# Altium footprint library opa167.PcbLib: 4 footprints
Each footprint in its own frame and in the unit in brackets; x right, y up, seen from the top. Pads: shape width x height; smd on the part's side, far side on the other; paste and mask are expansions set on the pad; w line width, h text height; cw(c..) or ccw(c..) is an arc to the next point about the centre after c.
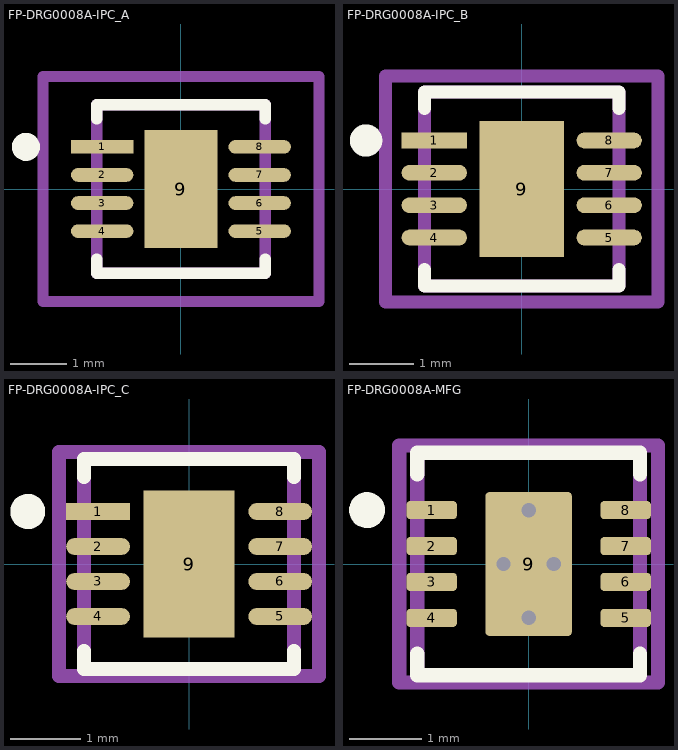
[diagram p0: the footprints below, top view; thin cyan lines are the x and y axes]

## FP-DRG0008A-IPC_A [mm]
pads (9):
  rect 1.11x0.242 smd paste+0 mask+0: 1(-1.401,0.75)
  rrect100% 1.11x0.242 smd paste+0 mask+0: 2(-1.401,0.25) 3(-1.401,-0.25) 4(-1.401,-0.75) 5(1.401,-0.75) 6(1.401,-0.25) 7(1.401,0.25) 8(1.401,0.75)
  rect 1.3x2.1 smd paste-1000 mask+0: 9(0,0)
Top Overlay:
  circle w0.25: c-2.756,0.75 r0.125
  lines w0.2: -1.5,-1.246 -1.5,-1.5 1.5,-1.5 1.5,-1.246 ; -1.5,1.246 -1.5,1.5 1.5,1.5 1.5,1.246
Top Paste:
  rectangle: -0.359,-0.759 0.359,0.759
Top Assembly:
  lines w0.2: -2.456,-2 2.456,-2 2.456,2 -2.456,2 -2.456,-2
  text ".Designator" at 0,-0.001 h1
Top 3D Body:
  lines w0.2: -1.5,-1.5 1.5,-1.5 1.5,1.5 -1.5,1.5 -1.5,-1.5
Top Courtyard:
  lines w0.2: -2.456,-2 2.456,-2 2.456,2 -2.456,2 -2.456,-2
Top Component Center:
  lines w0.1: -0.5,0 0.5,0 ; 0,-0.5 0,0.5
3D body "IC_TEXAS_INSTRUMENTS_LP2951-33DRGR_eec.STEP": height 0.25, standoff 0, extent -2.456,-2 2.456,2

## FP-DRG0008A-IPC_B [mm]
pads (9):
  rect 1.01x0.242 smd paste+0 mask+0: 1(-1.351,0.75)
  rrect100% 1.01x0.242 smd paste+0 mask+0: 2(-1.351,0.25) 3(-1.351,-0.25) 4(-1.351,-0.75) 5(1.351,-0.75) 6(1.351,-0.25) 7(1.351,0.25) 8(1.351,0.75)
  rect 1.3x2.1 smd paste-1000 mask+0: 9(0,0)
Top Overlay:
  circle w0.25: c-2.406,0.75 r0.125
  lines w0.2: -1.5,-1.246 -1.5,-1.5 1.5,-1.5 1.5,-1.246 ; -1.5,1.246 -1.5,1.5 1.5,1.5 1.5,1.246
Top Paste:
  rectangle: -0.359,-0.759 0.359,0.759
Top Assembly:
  lines w0.2: -2.106,-1.75 2.106,-1.75 2.106,1.75 -2.106,1.75 -2.106,-1.75
  text ".Designator" at 0,-0.001 h1
Top 3D Body:
  lines w0.2: -1.5,-1.5 1.5,-1.5 1.5,1.5 -1.5,1.5 -1.5,-1.5
Top Courtyard:
  lines w0.2: -2.106,-1.75 2.106,-1.75 2.106,1.75 -2.106,1.75 -2.106,-1.75
Top Component Center:
  lines w0.1: -0.5,0 0.5,0 ; 0,-0.5 0,0.5
3D body "IC_TEXAS_INSTRUMENTS_LP2951-33DRGR_eec.STEP": height 0.25, standoff 0, extent -2.106,-1.75 2.106,1.75

## FP-DRG0008A-IPC_C [mm]
pads (9):
  rect 0.91x0.242 smd paste+0 mask+0: 1(-1.301,0.75)
  rrect100% 0.91x0.242 smd paste+0 mask+0: 2(-1.301,0.25) 3(-1.301,-0.25) 4(-1.301,-0.75) 5(1.301,-0.75) 6(1.301,-0.25) 7(1.301,0.25) 8(1.301,0.75)
  rect 1.3x2.1 smd paste-1000 mask+0: 9(0,0)
Top Overlay:
  circle w0.25: c-2.306,0.75 r0.125
  lines w0.2: -1.5,-1.246 -1.5,-1.5 1.5,-1.5 1.5,-1.246 ; -1.5,1.246 -1.5,1.5 1.5,1.5 1.5,1.246
Top Paste:
  rectangle: -0.359,-0.759 0.359,0.759
Top Assembly:
  lines w0.2: -1.856,-1.6 1.856,-1.6 1.856,1.6 -1.856,1.6 -1.856,-1.6
  text ".Designator" at 0,-0.001 h1
Top 3D Body:
  lines w0.2: -1.5,-1.5 1.5,-1.5 1.5,1.5 -1.5,1.5 -1.5,-1.5
Top Courtyard:
  lines w0.2: -1.856,-1.6 1.856,-1.6 1.856,1.6 -1.856,1.6 -1.856,-1.6
Top Component Center:
  lines w0.1: -0.5,0 0.5,0 ; 0,-0.5 0,0.5
3D body "IC_TEXAS_INSTRUMENTS_LP2951-33DRGR_eec.STEP": height 0.25, standoff 0, extent -1.856,-1.6 1.856,1.6

## FP-DRG0008A-MFG [mm]
pads (9):
  rrect40% 0.7x0.25 smd paste+0 mask+0: 1(-1.35,0.75) 2(-1.35,0.25) 3(-1.35,-0.25) 4(-1.35,-0.75) 5(1.35,-0.75) 6(1.35,-0.25) 7(1.35,0.25) 8(1.35,0.75)
  rrect8% 1.2x2 smd paste-1000 mask+0: 9(0,0)
via 0,0.75 diameter 0.5 hole 0.2
via 0,-0.75 diameter 0.5 hole 0.2
via -0.35,0 diameter 0.5 hole 0.2
via 0.35,0 diameter 0.5 hole 0.2
Top Overlay:
  circle w0.25: c-2.25,0.75 r0.125
  lines w0.2: -1.55,-1.25 -1.55,-1.55 1.55,-1.55 1.55,-1.25 ; -1.55,1.25 -1.55,1.55 1.55,1.55 1.55,1.25
Top Paste:
  region: 0.515,0.895 0.525,0.895 0.543,0.887 0.557,0.873 0.565,0.855 0.565,0.845 0.565,-0.845 0.565,-0.855 0.557,-0.873 0.543,-0.887 0.525,-0.895 0.515,-0.895 -0.515,-0.895 -0.525,-0.895 -0.543,-0.887 -0.557,-0.873 -0.565,-0.855 -0.565,-0.845 -0.565,0.845 -0.565,0.855 -0.557,0.873 -0.543,0.887 -0.525,0.895 -0.515,0.895
Top Assembly:
  lines w0.2: -1.8,-1.65 1.8,-1.65 1.8,1.65 -1.8,1.65 -1.8,-1.65
  text ".Designator" at 0,-0.001 h1
Top 3D Body:
  lines w0.2: -1.55,-1.55 1.55,-1.55 1.55,1.55 -1.55,1.55 -1.55,-1.55
Top Courtyard:
  lines w0.2: -1.8,-1.65 1.8,-1.65 1.8,1.65 -1.8,1.65 -1.8,-1.65
Top Component Center:
  lines w0.1: -0.5,0 0.5,0 ; 0,-0.5 0,0.5
3D body "IC_TEXAS_INSTRUMENTS_LP2951-33DRGR_eec.STEP": height 0.25, standoff 0, extent -1.8,-1.65 1.8,1.65